# Altium schematic symbol library Connectors.SchLib: 4 symbols
Pins are listed as number, name and electrical type; pins without a type are passive.

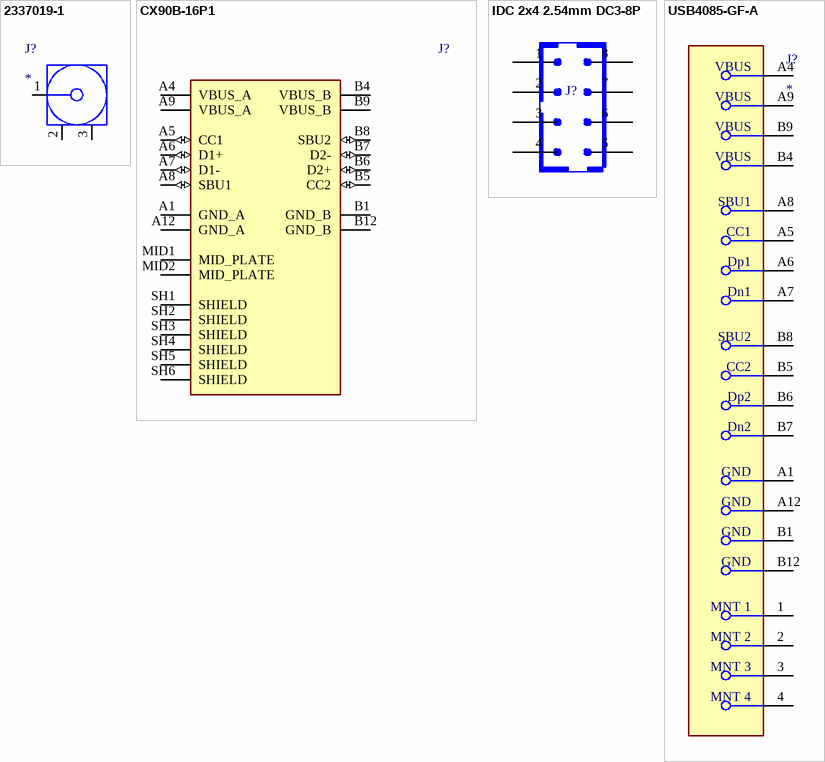
[diagram p0: symbols 2337019-1 to USB4085-GF-A]

## 2337019-1
designator J?
U.FL (UMCC) Connector Receptacle, Male Pin 50 Ohms Surface Mount Solder
footprint 2337019-1
pins: 1 SIGNAL, 2 GND, 3 GND

## CX90B-16P1
designator J?  (value not drawn)
footprint CX90B-16P1 (HiRose USB C Connector)
pins: A1 GND_A (power), A4 VBUS_A (power), A5 CC1 (io), A6 D1+ (io), A7 D1- (io), A8 SBU1 (io), A9 VBUS_A (power), A12 GND_A (power), B1 GND_B (power), B4 VBUS_B (power), B5 CC2 (io), B6 D2+ (io), B7 D2- (io), B8 SBU2 (io), B9 VBUS_B (power), B12 GND_B (power), MID1 MID_PLATE, MID2 MID_PLATE, SH1 SHIELD, SH2 SHIELD, SH3 SHIELD, SH4 SHIELD, SH5 SHIELD, SH6 SHIELD

## IDC 2x4 2.54mm DC3-8P
designator J?  (value not drawn)
Straight idc box headers PCB CONNECTOR DOUBLE ROW DC3 HEADER; M/F: Male; Pitch: 2.54mm; Rows: 2; Pins: 8
footprint 2.54mm Pitch 1.1mm Drill 2x4P (MALE SOCKET straight idc box headers PCB CONNECTOR DOUBLE ROW DC3 HEADER 8 pins 2 rows- chinese from aliexpress)
pins: 1, 2, 3, 4, 5, 6, 7, 8

## USB4085-GF-A
designator J?
USB-C USB 2.0 Receptacle
footprint FP-USB4085-GF-A-MFG (USB C 2.0 Connector)
pins: 1 MNT 1, 2 MNT 2, 3 MNT 3, 4 MNT 4, A1 GND, A4 VBUS, A5 CC1, A6 Dp1, A7 Dn1, A8 SBU1, A9 VBUS, A12 GND, B1 GND, B4 VBUS, B5 CC2, B6 Dp2, B7 Dn2, B8 SBU2, B9 VBUS, B12 GND